# Altium footprint library jacks.PcbLib: 3 footprints
Each footprint in its own frame and in the unit in brackets; x right, y up, seen from the top. Pads: shape width x height; smd on the part's side, far side on the other; paste and mask are expansions set on the pad; w line width, h text height; cw(c..) or ccw(c..) is an arc to the next point about the centre after c.
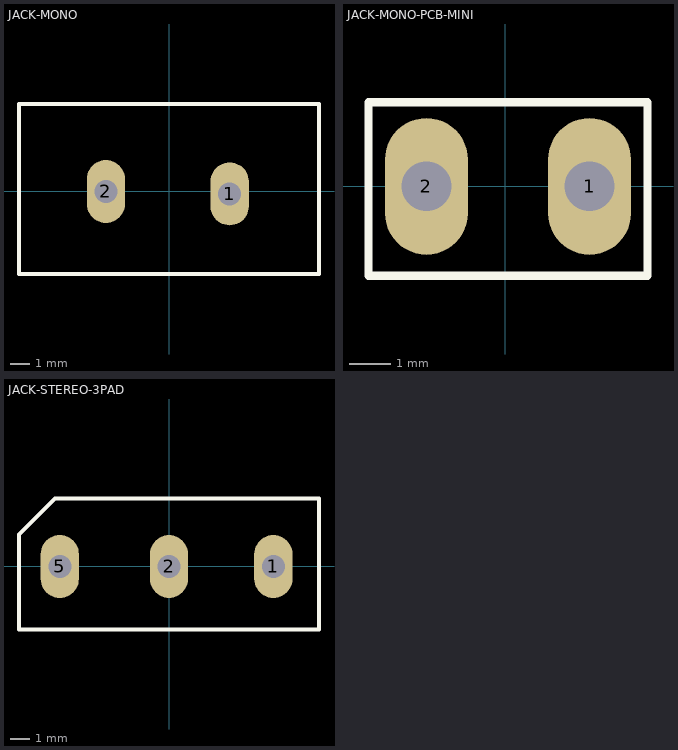
[diagram p0: the footprints below, top view; thin cyan lines are the x and y axes]

## JACK-MONO [mm] "Connector; Jack Socket, 1/4\" [6.5mm], Thru-Hole, 2 Position, Vertical, Body 15.7 x 15.7 x 31 mm (WxTxH)"
pads (2):
  oval 2x3.3 hole 1.2: 1(3.175,-0.127) 2(-3.302,0)
Top Overlay:
  lines w0.2: -7.85,-4.318 7.85,-4.318 7.85,4.572 -7.85,4.572 -7.85,-4.318

## JACK-MONO-PCB-MINI [mm] "Connector; Jack Socket, 1/4\" [6.5mm], Thru-Hole, 2 Position, Vertical, Body 15.7 x 15.7 x 31 mm (WxTxH)"
pads (2):
  oval 2x3.3 hole 1.2: 1(2.032,0) 2(-1.905,0)
Top Overlay:
  lines w0.2: -3.302,-2.159 -3.302,2.032 3.429,2.032 3.429,-2.159 -3.302,-2.159

## JACK-STEREO-3PAD [mm] "Connector; Jack Socket, 1/4\" [6.5mm], Thru-Hole, 3 Position, Vertical, Body 15.7 x 15.7 x 31 mm (WxTxH)"
pads (3):
  oval 2x3.3 hole 1.2: 1(5.461,0) 2(0,0) 5(-5.715,0)
Top Overlay:
  lines w0.2: -7.85,-3.302 7.85,-3.302 7.85,3.556 -5.969,3.556 -7.85,1.675 -7.85,-3.302